# EAGLE library part 74HCT125T14-13 (library 74HCT125T14-13)
DiodesZetex 74HCT125T14-13, Quad, Buffer 3-State, Non-Inverting, 4.5 5.5 V, 14-Pin TSSOP Source: Datasheet <https://www.diodes.com//assets/Datasheets/74HCT125.pdf>
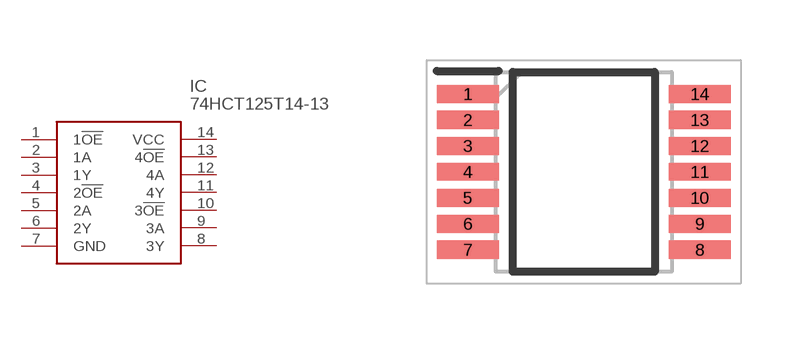
[diagram p0: symbol with the pads of SOP65P640X120-14N; footprint SOP65P640X120-14N]

Designator prefix IC

## 74HCT125T14-13 (Description: DiodesZetex 74HCT125T14-13, Quad, Buffer 3-State, Non-Inverting, 4.5 5.5 V, 14-Pin TSSOP; Height: 1.2mm; Manufacturer_Name: Diodes Incorporated; Manufacturer_Part_Number: 74HCT125T14-13; Mouser_Part_Number: 621-74HCT125T14-13; Mouser_Price-Stock: https://www.mouser.co.uk/ProductDetail/Diodes-Incorporated/74HCT125T14-13?qs=pYVYkI7xuRW%2Fbse6mhLP1g%3D%3D)  [SOP65P640X120-14N]
1  1!OE
2  1A
3  1Y
4  2!OE
5  2A
6  2Y
7  GND
8  3Y
9  3A
10  3!OE
11  4Y
12  4A
13  4!OE
14  VCC

## Footprint SOP65P640X120-14N (pad centres in mm)
TSSOP-14_2024
smd 1.55 x 0.45: 1 -2.9,1.95; 2 -2.9,1.3; 3 -2.9,0.65; 4 -2.9,0; 5 -2.9,-0.65; 6 -2.9,-1.3; 7 -2.9,-1.95; 8 2.9,-1.95; 9 2.9,-1.3; 10 2.9,-0.65; 11 2.9,0; 12 2.9,0.65; 13 2.9,1.3; 14 2.9,1.95